# Altium schematic symbol library Interfacing.SchLib: 1 symbol
Pins are listed as number, name and electrical type; pins without a type are passive.

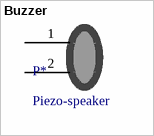
[diagram p0: symbol Buzzer]

## Buzzer
designator P*, comment Piezo-speaker
Piezo-electric speaker; ComponentLink1Description: m.nu; ComponentLink1URL: https://www.m.nu/blandat/piezo-buzzer-ps1240; ComponentLink2Description: Mouser; ComponentLink2URL: https://www.mouser.se/ProductDetail/TDK/PS1240P02BT?qs=sGAEpiMZZMsK322k1rNFfYfXmCWsjkB8iQfg2vl062k%3d
footprint PIEZO_5mm (Piezo element with 5mm pitch)
footprint PIEZO_5mm_90deg (Piezo element with 5mm pitch, 90 degree tilted)
pins: 1, 2